# Altium footprint library ZM5202.PcbLib: 1 footprints
Each footprint in its own frame and in the unit in brackets; x right, y up, seen from the top. Pads: shape width x height; smd on the part's side, far side on the other; paste and mask are expansions set on the pad; w line width, h text height; cw(c..) or ccw(c..) is an arc to the next point about the centre after c.
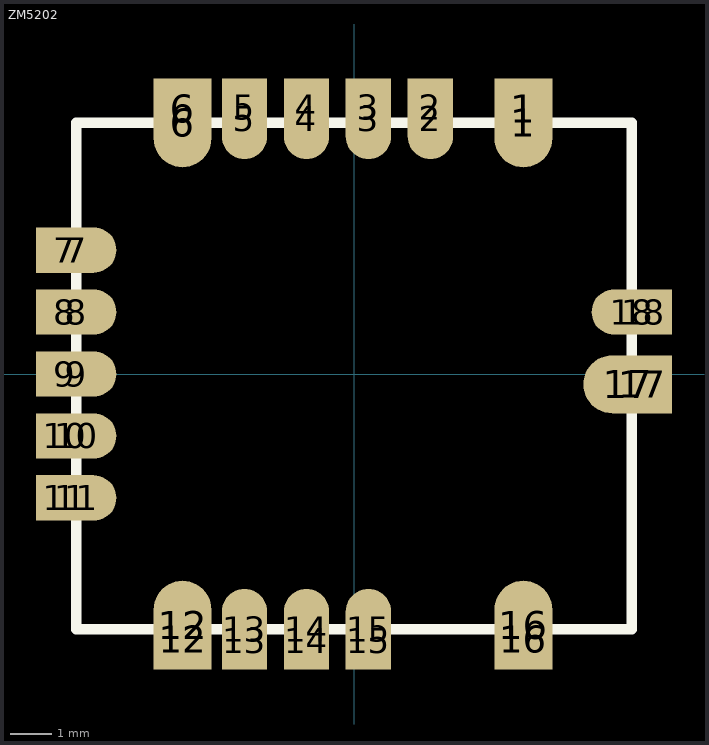
[diagram p0: the footprint, top view; thin cyan lines are the x and y axes]

## ZM5202 [mm]
pads (36):
  oval 1.4x2.15 smd: 1(4.1,6.075) 6(-4.15,6.075) 12(-4.15,-6.075) 16(4.1,-6.075)
  rect 1.4x1.45 smd: 1(4.1,6.425) 6(-4.15,6.425) 12(-4.15,-6.425) 16(4.1,-6.425)
  oval 1.1x1.95 smd: 2(1.85,6.175) 3(0.35,6.175) 4(-1.15,6.175) 5(-2.65,6.175) 13(-2.65,-6.175) 14(-1.15,-6.175) 15(0.35,-6.175)
  rect 1.1x1.4 smd: 2(1.85,6.45) 3(0.35,6.45) 4(-1.15,6.45) 5(-2.65,6.45) 13(-2.65,-6.45) 14(-1.15,-6.45) 15(0.35,-6.45)
  rect 1.4x1.1 smd: 7(-7,3) 8(-7,1.5) 9(-7,0) 10(-7,-1.5) 11(-7,-3) 18(7,1.5)
  oval 1.95x1.1 smd: 7(-6.725,3) 8(-6.725,1.5) 9(-6.725,0) 10(-6.725,-1.5) 11(-6.725,-3) 18(6.725,1.5)
  oval 2.15x1.4 smd: 17(6.625,-0.25)
  rect 1.45x1.4 smd: 17(6.975,-0.25)
Top Overlay:
  lines w0.254: -6.725,-6.175 6.725,-6.175 6.725,6.075 -6.725,6.075 -6.725,-6.175
3D body: height 2.5, standoff 0, extent -6.725,-6.2 6.725,6.05